# EAGLE library part ARDUINO_MICRO (library ijrobotics)
ARDUINO MICRO
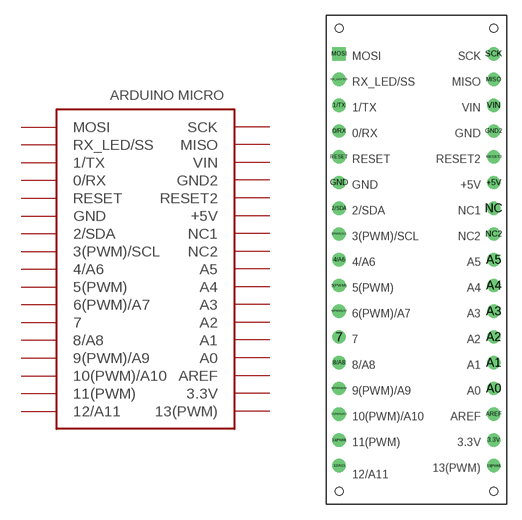
[diagram p6: symbol with the pads of ARDUINO_MICRO; footprint ARDUINO_MICRO]

Designator prefix -

## ARDUINO_MICRO  [ARDUINO_MICRO]
0/RX  0/RX
1/TX  1/TX
2/SDA  2/SDA
3(PWM)/SCL  3(PWM)/SCL
3.3V  3.3V
4/A6  4/A6
5(PWM)  5(PWM)
6(PWM)/A7  6(PWM)/A7
7  7
8/A8  8/A8
9(PWM)/A9  9(PWM)/A9
10(PWM)/A10  10(PWM)/A10
11(PWM)  11(PWM)
12/A11  12/A11
13(PWM)  13(PWM)
+5V  +5V
A0  A0
A1  A1
A2  A2
A3  A3
A4  A4
A5  A5
AREF  AREF
GND  GND
GND2  GND2
MISO  MISO
MOSI  MOSI
NC  NC1
NC2  NC2
RESET  RESET
RESET2  RESET2
RX_LED/SS  RX_LED/SS
SCK  SCK
VIN  VIN

## Footprint ARDUINO_MICRO (pad centres in mm)
ARDUINO MICRO
drill 0.8: 0/RX 1.27,36.83; 1/TX 1.27,39.37; 2/SDA 1.27,29.21; 3(PWM)/SCL 1.27,26.67; 3.3V 16.51,6.35; 4/A6 1.27,24.13; 5(PWM) 1.27,21.59; 6(PWM)/A7 1.27,19.05; 7 1.27,16.51; 8/A8 1.27,13.97; 9(PWM)/A9 1.27,11.43; 10(PWM)/A10 1.27,8.89; 11(PWM) 1.27,6.35; 12/A11 1.27,3.81; 13(PWM) 16.51,3.81; +5V 16.51,31.75; A0 16.51,11.43; A1 16.51,13.97; A2 16.51,16.51; A3 16.51,19.05; A4 16.51,21.59; A5 16.51,24.13; AREF 16.51,8.89; GND 1.27,31.75; GND2 16.51,36.83; MISO 16.51,41.91; NC 16.51,29.21; NC2 16.51,26.67; RESET 1.27,34.29; RESET2 16.51,34.29; RX_LED/SS 1.27,41.91; SCK 16.51,44.45; VIN 16.51,39.37
drill 0.8 square: MOSI 1.27,44.45
hole 0.8 at 1.27,46.99
hole 0.8 at 16.51,46.99
hole 0.8 at 1.27,1.27
hole 0.8 at 16.51,1.27